# Altium footprint library CONV_TMV_0505S.PcbLib: 1 footprints
Each footprint in its own frame and in the unit in brackets; x right, y up, seen from the top. Pads: shape width x height; smd on the part's side, far side on the other; paste and mask are expansions set on the pad; w line width, h text height; cw(c..) or ccw(c..) is an arc to the next point about the centre after c.
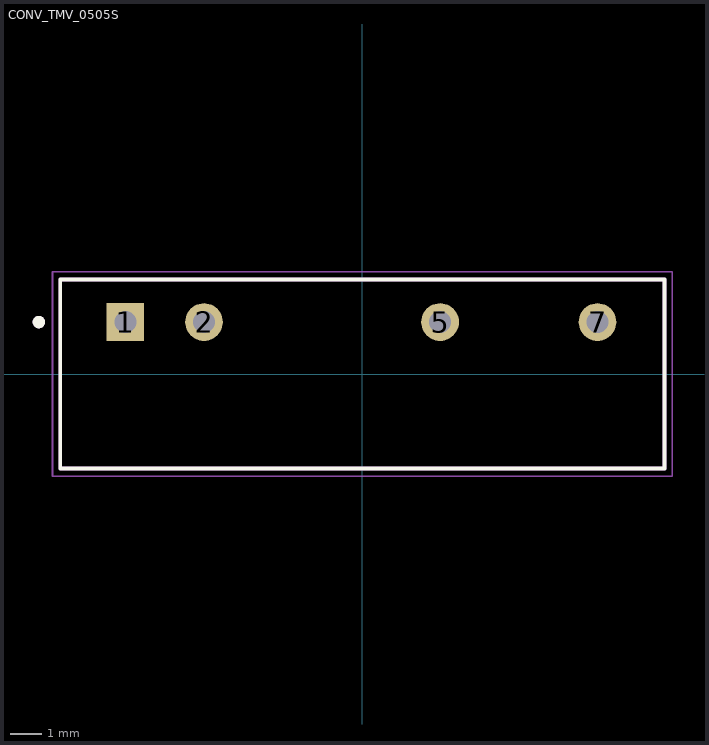
[diagram p0: the footprint, top view; thin cyan lines are the x and y axes]

## CONV_TMV_0505S [mm]
pads (4):
  rect 1.218x1.218 hole 0.71: 1(-7.65,1.675)
  round 1.218 hole 0.71: 2(-5.11,1.675) 5(2.51,1.675) 7(7.59,1.675)
Top Overlay:
  circle w0.2: c-10.438,1.675 r0.1
  lines w0.127: -9.75,-3.05 9.75,-3.05 9.75,3.05 -9.75,3.05 -9.75,-3.05
Mechanical 13:
  circle w0.2: c-10.438,1.675 r0.1
  lines w0.127: -9.75,-3.05 9.75,-3.05 9.75,3.05 -9.75,3.05 -9.75,-3.05
Mechanical 15:
  lines w0.05: -10,-3.3 10,-3.3 10,3.3 -10,3.3 -10,-3.3
3D body "step_temp.STEP": height 9.7, standoff -3.7, extent -9.75,-3.05 9.75,3.05